# EAGLE library part DE0_NANO (library de0-nano)
DE0_NANO
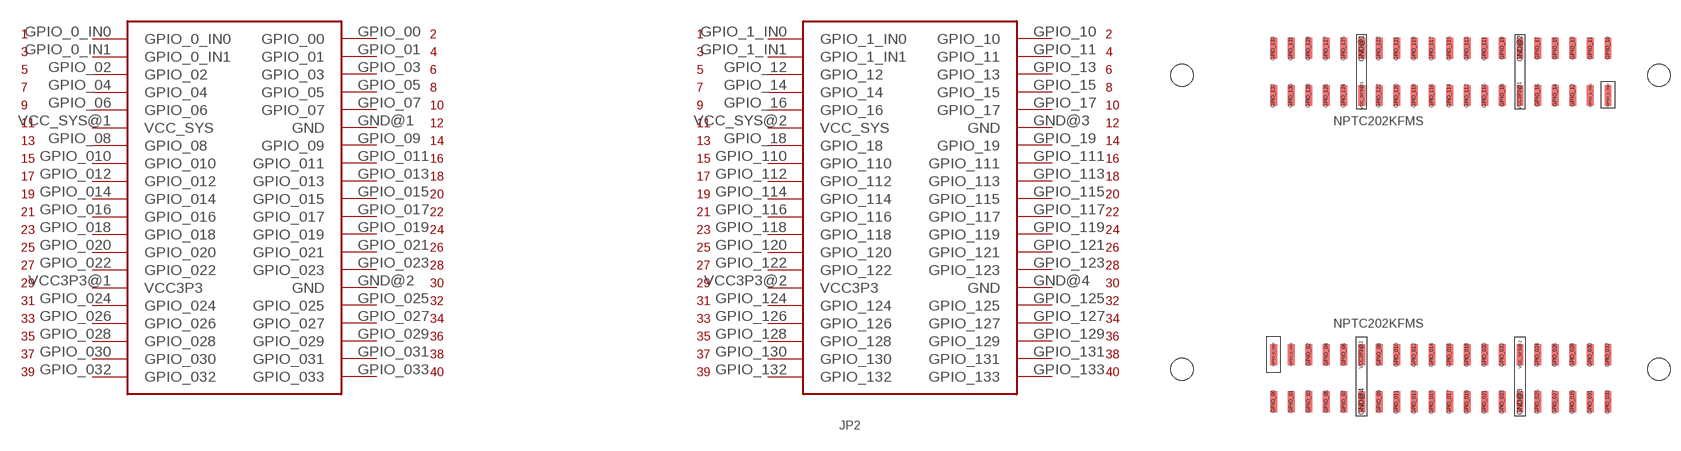
[diagram p0: symbol with the pads of DE0_NANO_PAC; footprint DE0_NANO_PAC]

Designator prefix -

## DE0_NANO  [DE0_NANO_PAC]
GND@1  GND  pwr
GND@2  GND  pwr
GND@3  GND  pwr
GND@4  GND  pwr
GPIO_00  GPIO_00
GPIO_0_IN0  GPIO_0_IN0
GPIO_0_IN1  GPIO_0_IN1
GPIO_01  GPIO_01
GPIO_1_IN0  GPIO_1_IN0
GPIO_1_IN1  GPIO_1_IN1
GPIO_02  GPIO_02
GPIO_03  GPIO_03
GPIO_04  GPIO_04
GPIO_05  GPIO_05
GPIO_06  GPIO_06
GPIO_07  GPIO_07
GPIO_08  GPIO_08
GPIO_09  GPIO_09
GPIO_010  GPIO_010
GPIO_10  GPIO_10
GPIO_011  GPIO_011
GPIO_11  GPIO_11
GPIO_012  GPIO_012
GPIO_12  GPIO_12
GPIO_013  GPIO_013
GPIO_13  GPIO_13
GPIO_014  GPIO_014
GPIO_14  GPIO_14
GPIO_015  GPIO_015
GPIO_15  GPIO_15
GPIO_016  GPIO_016
GPIO_16  GPIO_16
GPIO_017  GPIO_017
GPIO_17  GPIO_17
GPIO_018  GPIO_018
GPIO_18  GPIO_18
GPIO_019  GPIO_019
GPIO_19  GPIO_19
GPIO_020  GPIO_020
GPIO_021  GPIO_021
GPIO_022  GPIO_022
GPIO_023  GPIO_023
GPIO_024  GPIO_024
GPIO_025  GPIO_025
GPIO_026  GPIO_026
GPIO_027  GPIO_027
GPIO_028  GPIO_028
GPIO_029  GPIO_029
GPIO_030  GPIO_030
GPIO_031  GPIO_031
GPIO_032  GPIO_032
GPIO_033  GPIO_033
GPIO_110  GPIO_110
GPIO_111  GPIO_111
GPIO_112  GPIO_112
GPIO_113  GPIO_113
GPIO_114  GPIO_114
GPIO_115  GPIO_115
GPIO_116  GPIO_116
GPIO_117  GPIO_117
GPIO_118  GPIO_118
GPIO_119  GPIO_119
GPIO_120  GPIO_120
GPIO_121  GPIO_121
GPIO_122  GPIO_122
GPIO_123  GPIO_123
GPIO_124  GPIO_124
GPIO_125  GPIO_125
GPIO_126  GPIO_126
GPIO_127  GPIO_127
GPIO_128  GPIO_128
GPIO_129  GPIO_129
GPIO_130  GPIO_130
GPIO_131  GPIO_131
GPIO_132  GPIO_132
GPIO_133  GPIO_133
VCC3P3@1  VCC3P3  pwr
VCC3P3@2  VCC3P3  pwr
VCC_SYS@1  VCC_SYS  pwr
VCC_SYS@2  VCC_SYS  pwr

## Footprint DE0_NANO_PAC (pad centres in mm)
de0 nano
smd 1 x 3: GND@1 -8.63,25.12; GND@2 14.23,25.12; GND@3 14.23,-25.88; GND@4 -8.63,-25.88; GPIO_00 -21.33,-25.88; GPIO_0_IN0 -21.33,-19.08; GPIO_0_IN1 -18.79,-19.08; GPIO_01 -18.79,-25.88; GPIO_1_IN0 26.93,18.32; GPIO_1_IN1 24.39,18.32; GPIO_02 -16.25,-19.08; GPIO_03 -16.25,-25.88; GPIO_04 -13.71,-19.08; GPIO_05 -13.71,-25.88; GPIO_06 -11.17,-19.08; GPIO_07 -11.17,-25.88; GPIO_08 -6.09,-19.08; GPIO_09 -6.09,-25.88; GPIO_010 -3.55,-19.08; GPIO_10 26.93,25.12; GPIO_011 -3.55,-25.88; GPIO_11 24.39,25.12; GPIO_012 -1.01,-19.08; GPIO_12 21.85,18.32; GPIO_013 -1.01,-25.88; GPIO_13 21.85,25.12; GPIO_014 1.53,-19.08; GPIO_14 19.31,18.32; GPIO_015 1.53,-25.88; GPIO_15 19.31,25.12; GPIO_016 4.07,-19.08; GPIO_16 16.77,18.32; GPIO_017 4.07,-25.88; GPIO_17 16.77,25.12; GPIO_018 6.61,-19.08; GPIO_18 11.69,18.32; GPIO_019 6.61,-25.88; GPIO_19 11.69,25.12; GPIO_020 9.15,-19.08; GPIO_021 9.15,-25.88; GPIO_022 11.69,-19.08; GPIO_023 11.69,-25.88; GPIO_024 16.77,-19.08; GPIO_025 16.77,-25.88; GPIO_026 19.31,-19.08; GPIO_027 19.31,-25.88; GPIO_028 21.85,-19.08; GPIO_029 21.85,-25.88; GPIO_030 24.39,-19.08; GPIO_031 24.39,-25.88; GPIO_032 26.93,-19.08; GPIO_033 26.93,-25.88; GPIO_110 9.15,18.32; GPIO_111 9.15,25.12; GPIO_112 6.61,18.32; GPIO_113 6.61,25.12; GPIO_114 4.07,18.32; GPIO_115 4.07,25.12; GPIO_116 1.53,18.32; GPIO_117 1.53,25.12; GPIO_118 -1.01,18.32; GPIO_119 -1.01,25.12; GPIO_120 -3.55,18.32; GPIO_121 -3.55,25.12; GPIO_122 -6.09,18.32; GPIO_123 -6.09,25.12; GPIO_124 -11.17,18.32; GPIO_125 -11.17,25.12; GPIO_126 -13.71,18.32; GPIO_127 -13.71,25.12; GPIO_128 -16.25,18.32; GPIO_129 -16.25,25.12; GPIO_130 -18.79,18.32; GPIO_131 -18.79,25.12; GPIO_132 -21.33,18.32; GPIO_133 -21.33,25.12; VCC3P3@1 14.23,18.32; VCC3P3@2 -8.63,-19.08; VCC_SYS@1 -8.63,18.32; VCC_SYS@2 14.23,-19.08
hole 3.2 at -34.54,21.21
hole 3.2 at -34.54,-21.21
hole 3.2 at 34.29,21.21
hole 3.2 at 34.29,-21.21